# Altium footprint library PCB - POWER INDUCTORS - TDK SPM6530.PCBLIB: 1 footprints
Each footprint in its own frame and in the unit in brackets; x right, y up, seen from the top. Pads: shape width x height; smd on the part's side, far side on the other; paste and mask are expansions set on the pad; w line width, h text height; cw(c..) or ccw(c..) is an arc to the next point about the centre after c.
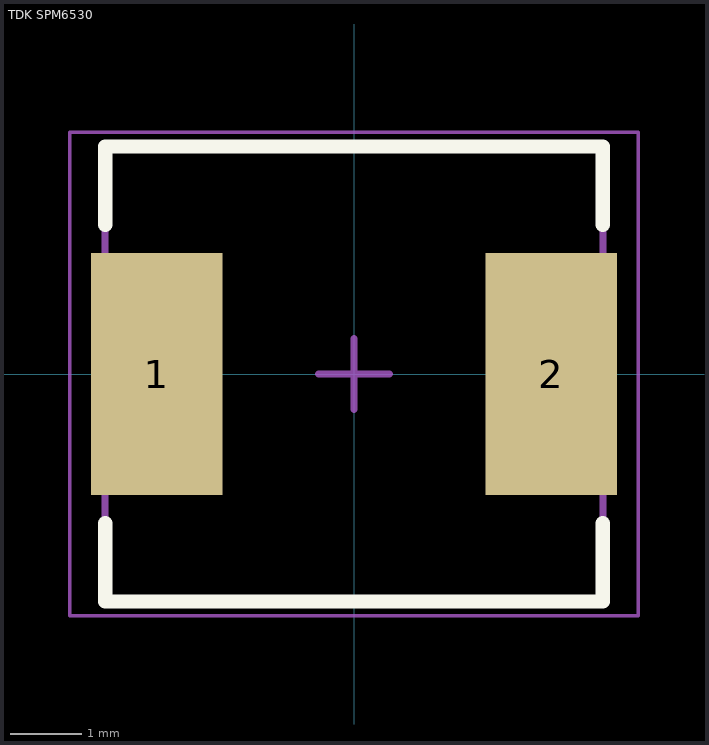
[diagram p0: the footprint, top view; thin cyan lines are the x and y axes]

## TDK SPM6530 [mm] "Precision Wire Wound Inductor, 2-Leads, Body 6.5x7.1mm"
height 3
pads (2):
  rect 1.85x3.4 smd: 1(-2.775,0) 2(2.775,0)
Top Overlay:
  lines w0.2: -3.5,-2.1 -3.5,-3.2 3.5,-3.2 3.5,-2.1 ; -3.5,2.1 -3.5,3.2 3.5,3.2 3.5,2.1
Mechanical 13:
  lines w0.1: -3.5,-3.2 3.5,-3.2 3.5,3.2 -3.5,3.2 -3.5,-3.2
Mechanical 15:
  lines w0.05: -4,-3.4 4,-3.4 4,3.4 -4,3.4 -4,-3.4
  lines w0.1: -0.5,0 0.5,0 ; 0,-0.5 0,0.5
3D body "TDK - SPM6530.step": height 3.15, standoff 0, extent -3.55,-3.25 3.55,3.25